# EAGLE library part MCM6226A (library memory-sram)
MEMORY
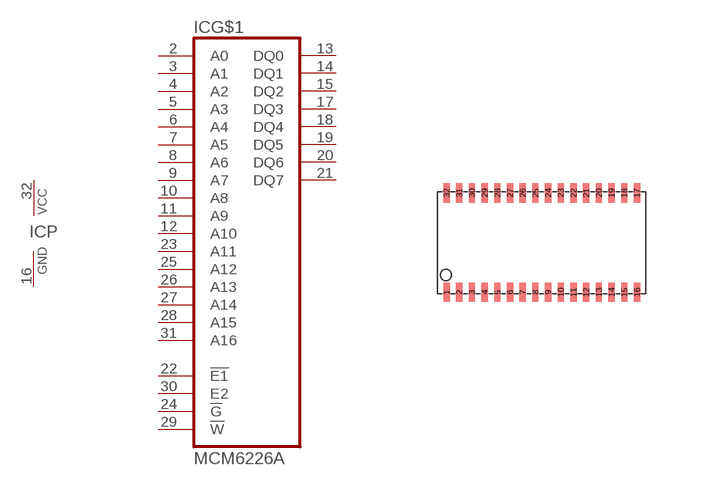
[diagram p13: symbol with the pads of SOJ32/4; footprint SOJ32/4]

Designator prefix IC; gates G$1=CM6226A P=PWRN

## MCM6226A  [SOJ32/4]
2  G$1:A0  in
3  G$1:A1  in
4  G$1:A2  in
5  G$1:A3  in
6  G$1:A4  in
7  G$1:A5  in
8  G$1:A6  in
9  G$1:A7  in
10  G$1:A8  in
11  G$1:A9  in
12  G$1:A10  in
13  G$1:DQ0
14  G$1:DQ1
15  G$1:DQ2
16  P:GND  pwr
17  G$1:DQ3
18  G$1:DQ4
19  G$1:DQ5
20  G$1:DQ6
21  G$1:DQ7
22  G$1:!E1  in
23  G$1:A11  in
24  G$1:!G  in
25  G$1:A12  in
26  G$1:A13  in
27  G$1:A14  in
28  G$1:A15  in
29  G$1:!W  in
30  G$1:E2  in
31  G$1:A16  in
32  P:VCC  pwr

## Footprint SOJ32/4 (pad centres in mm)
Small Outline J-Bend
smd 0.159 x 0.476: 1 -2.381,-1.241; 2 -2.064,-1.241; 3 -1.746,-1.241; 4 -1.429,-1.241; 5 -1.111,-1.241; 6 -0.794,-1.241; 7 -0.476,-1.241; 8 -0.159,-1.241; 9 0.159,-1.241; 10 0.476,-1.241; 11 0.794,-1.241; 12 1.111,-1.241; 13 1.429,-1.241; 14 1.746,-1.241; 15 2.064,-1.241; 16 2.381,-1.241; 17 2.381,1.241; 18 2.064,1.241; 19 1.746,1.241; 20 1.429,1.241; 21 1.111,1.241; 22 0.794,1.241; 23 0.476,1.241; 24 0.159,1.241; 25 -0.159,1.241; 26 -0.476,1.241; 27 -0.794,1.241; 28 -1.111,1.241; 29 -1.429,1.241; 30 -1.746,1.241; 31 -2.064,1.241; 32 -2.381,1.241